# Altium footprint library ArduinoFOC.PcbLib: 12 footprints
Each footprint in its own frame and in the unit in brackets; x right, y up, seen from the top. Pads: shape width x height; smd on the part's side, far side on the other; paste and mask are expansions set on the pad; w line width, h text height; cw(c..) or ccw(c..) is an arc to the next point about the centre after c.
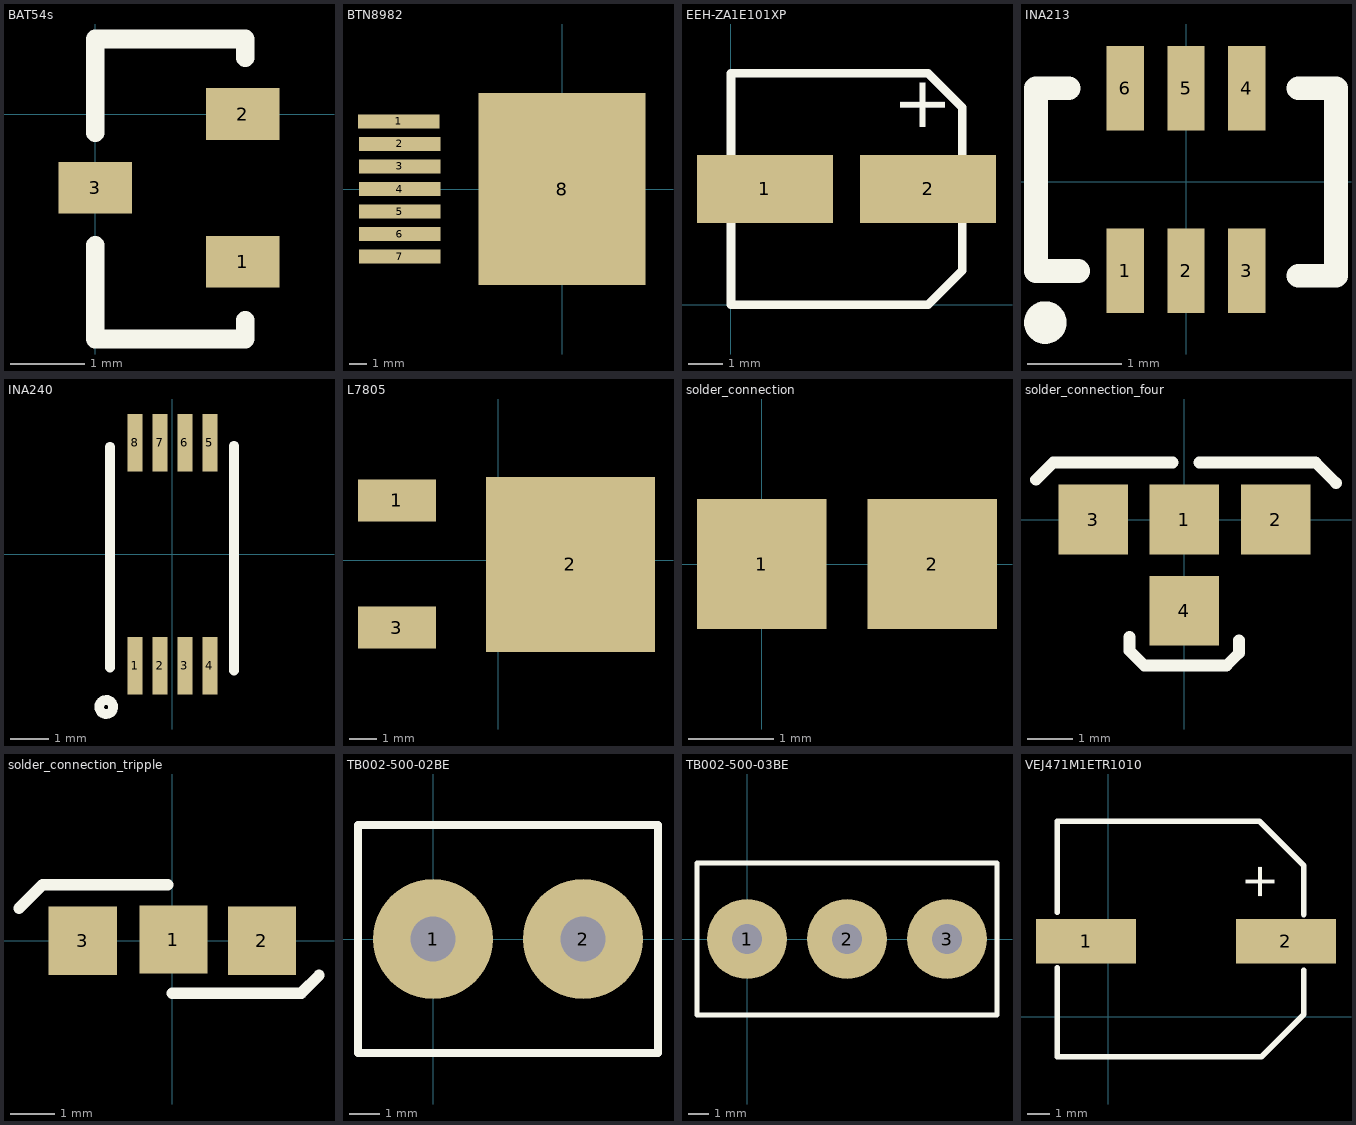
[diagram p0: the footprints below, top view; thin cyan lines are the x and y axes]

## BAT54s [mm]
pads (3):
  rect 1x0.7 smd: 1(2,-2) 2(2,0) 3(0,-1)
Top Overlay:
  lines w0.254: 0,-1.778 0,-3.048 2.032,-3.048 2.032,-2.794 ; 0,-0.254 0,1.016 2.032,1.016 2.032,0.762
3D body "User Library-BAT54.STEP": height 1, standoff 0, extent -0.46,-2.17 2.46,0.17
3D body "User Library-BAT54.STEP": height 1, standoff 0, extent -0.154,-2.476 2.186,0.444

## BTN8982 [mm] "Infineon BTN8982TA"
pads (8):
  rect 4.6x0.8 smd: 1(-9.2,3.81) 2(-9.15,2.54) 3(-9.15,1.27) 4(-9.15,0) 5(-9.15,-1.27) 6(-9.15,-2.54) 7(-9.15,-3.81)
  rect 9.4x10.8 smd: 8(0,0)
3D body "btn8982.STEP": height 4.4, standoff 0, extent -10.768,-4.968 4.182,5.032

## EEH-ZA1E101XP [mm]
pads (2):
  rect 4x2 smd: 1(1,3.4) 2(5.8,3.4)
Top Overlay:
  lines w0.254: 0,2.4 0,0 5.8,0 6.8,1 6.8,2.4 ; 0,4.4 0,6.8 5.8,6.8 6.8,5.8 6.8,4.3
  text "+" at 6.3,5 h1.52
3D body "User Library-A3D-003-00012.STEP": height 7.7, standoff 0, extent -0.3,0.2 7,6.8

## INA213 [mm]
pads (6):
  rect 0.4x0.9 smd mask+0.05: 1(-0.65,-0.946) 2(0,-0.946) 3(0.65,-0.946) 4(0.65,1) 5(0,1) 6(-0.65,1)
Top Overlay:
  circle w0.254: c-1.5,-1.5 r0.1
  lines w0.254: -1.25,1 -1.6,1 -1.6,-0.95 -1.15,-0.95 ; 1.2,-1 1.6,-1 1.6,1 1.2,1

## INA240 [mm]
pads (8):
  rect 0.4x1.5 smd mask+0.05: 1(-0.975,-2.9) 2(-0.325,-2.9) 3(0.325,-2.9) 4(0.975,-2.9) 5(0.975,2.9) 6(0.325,2.9) 7(-0.325,2.9) 8(-0.975,2.9)
Top Overlay:
  lines w0.254: -1.764,-3.797 ccw(c-1.725,-3.975) -1.725,-3.793 ; -1.625,-2.95 -1.625,2.8 ; 1.6,-3.025 1.6,2.825
3D body "ina240.STEP": height 1.2, standoff 0, extent -1.5,-3.3 1.5,3.3

## L7805 [mm] "l7805"
pads (3):
  rect 2.8x1.5 smd: 1(-3.65,2.15) 3(-3.65,-2.422)
  rect 6.1x6.3 smd: 2(2.6,-0.15)
3D body "l7805.STEP": height 2.3, standoff 0, extent -4.662,-3.3 5.062,3.1

## solder_connection [mil]
pads (2):
  rect 60x60 smd: 1(0,0) 2(78.74,0)

## solder_connection_four [mil]
pads (4):
  rect 60x60 smd: 1(0,0) 2(78.74,0) 3(-78.74,0) 4(0,-78.74)
Top Overlay:
  lines w10: -127.95,34.45 -113.19,49.21 -9.84,49.21 ; -47.24,-101.38 -47.24,-113.19 -34.45,-125.98 36.42,-125.98 47.24,-115.16 47.24,-104.33 ; 12.8,49.21 104.33,49.21 113.19,49.21 130.91,31.5

## solder_connection_tripple [mil]
pads (3):
  rect 60x60 smd: 1(0.98,0.98) 2(78.74,0) 3(-78.74,0)
Top Layer:
  region: -28.54,34.45
Top Overlay:
  lines w10: -134.84,28.54 -114.17,49.21 -3.94,49.21 ; 0,-46.26 113.19,-46.26 128.94,-30.51

## TB002-500-02BE [mm] "TB002-500-02BE"
pads (2):
  round 4 hole 1.5: 1(0,0) 2(5,0)
Top Overlay:
  lines w0.254: -2.5,-3.8 -2.5,3.8 7.5,3.8 7.5,-3.8 -2.5,-3.8
3D body "2.STEP": height 13.55, standoff -4.05, extent -2.5,-4.4 7.5,4.6

## TB002-500-03BE [mm] "TB002-500-03BE"
pads (3):
  round 4 hole 1.5: 1(0,0) 2(5,0) 3(10,0)
Top Layer:
  lines w0.254: 0,-0.08 0,0
Top Overlay:
  lines w0.254: -2.5,-3.8 -2.5,3.8 12.5,3.8 12.5,-3.8 -2.5,-3.8
3D body "37753.stp": height 13.8, standoff -3.5, extent -2.57,-5.2 13.171,4.6

## VEJ471M1ETR1010 [mm]
pads (2):
  rect 4.5x2 smd: 1(-1,3.4) 2(8,3.4)
Top Overlay:
  lines w0.254: -2.3,2.2 -2.3,-1.8 6.9,-1.8 8.8,0.1 8.8,2.1 ; -2.3,4.7 -2.3,8.8 6.8,8.8 8.8,6.8 8.8,4.6
  text "+" at 7.5,5.2 h1.52
3D body "User Library-cap_10x10x10-1.STEP": height 10.3, standoff -0.2, extent -2.8,-1.85 9,8.65